# Altium schematic symbol library trafo-siemens.SCHLIB: 15 symbols
Pins are listed as number, name and electrical type; pins without a type are passive.

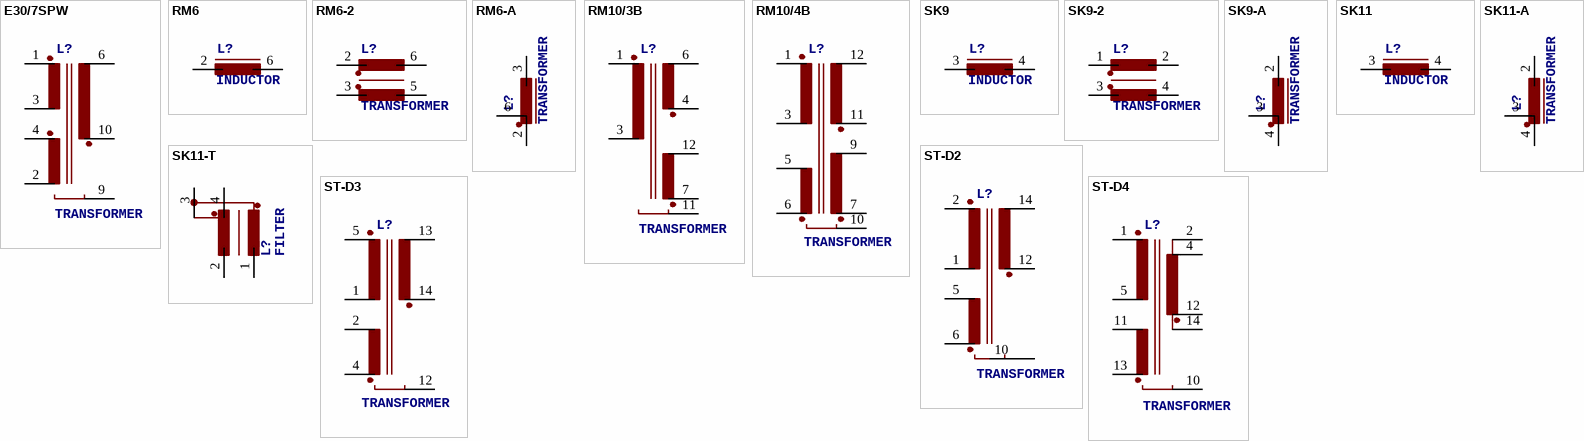
[diagram p0: symbols E30/7SPW to ST-D4]

## E30/7SPW
designator L?, comment TRANSFORMER
OC_FARNELL: unknown; OC_NEWARK: unknown
footprint E30/7
pins: 1 1A, 2 3E, 3 1E, 4 3A, 6 2E, 9 SCH, 10 2A

## RM6
designator L?, comment INDUCTOR
OC_FARNELL: unknown; OC_NEWARK: unknown
footprint RM6-4
pins: 2 1, 6 2

## RM6-2
designator L?, comment TRANSFORMER
OC_FARNELL: unknown; OC_NEWARK: unknown
footprint RM5-4
pins: 2 W1A, 3 W2A, 5 W2E, 6 W1E

## RM6-A
designator L?, comment TRANSFORMER
OC_FARNELL: unknown; OC_NEWARK: unknown
footprint RM5-4
pins: 2 1, 3, 6 2

## RM10/3B
designator L?, comment TRANSFORMER
OC_FARNELL: unknown; OC_NEWARK: unknown
footprint RM10-12B
pins: 1 1A, 3 1E, 4 3A, 6 3E, 7 2A, 11 SCH, 12 2E

## RM10/4B
designator L?, comment TRANSFORMER
OC_FARNELL: unknown; OC_NEWARK: unknown
footprint RM10-12B
pins: 1 1A, 3 1E, 5 4E, 6 4A, 7 2A, 9 2E, 10 SCH, 11 3A, 12 3E

## SK9
designator L?, comment INDUCTOR
OC_FARNELL: unknown; OC_NEWARK: unknown
footprint SK9
pins: 3 1, 4 2

## SK9-2
designator L?, comment TRANSFORMER
OC_FARNELL: unknown; OC_NEWARK: unknown
footprint SK9
pins: 1 W1A, 2 W1E, 3 W2A, 4 W2E

## SK9-A
designator L?, comment TRANSFORMER
OC_FARNELL: unknown; OC_NEWARK: unknown
footprint SK9
pins: 2 3, 3 2, 4 1

## SK11
designator L?, comment INDUCTOR
OC_FARNELL: unknown; OC_NEWARK: unknown
footprint SK11
pins: 3 1, 4 2

## SK11-A
designator L?, comment TRANSFORMER
OC_FARNELL: unknown; OC_NEWARK: unknown
footprint SK11
pins: 2 3, 3 2, 4 1

## SK11-T
designator L?, comment FILTER
OC_FARNELL: unknown; OC_NEWARK: unknown
footprint SK11
pins: 1, 2, 3, 4

## ST-D2
designator L?, comment TRANSFORMER
OC_FARNELL: unknown; OC_NEWARK: unknown
footprint ST-D2
pins: 1 1E, 2 1A, 5 3E, 6 3A, 10 SCH, 12 2A, 13 SCH1, 14 2E

## ST-D3
designator L?, comment TRANSFORMER
OC_FARNELL: unknown; OC_NEWARK: unknown
footprint ST-D3
pins: 1 1E, 2 3E, 4 3A, 5 1A, 12 SCH, 13 2E, 14 2A

## ST-D4
designator L?, comment TRANSFORMER
OC_FARNELL: unknown; OC_NEWARK: unknown
footprint ST-D4
pins: 1 1A, 2 2E, 4 2E1, 5 1E, 10 SCH, 11 3E, 12 2A, 13 3A, 14 2A1